# Altium integrated library 0527450797.IntLib: 1 symbol
Pins are listed as number, name and electrical type; pins without a type are passive.

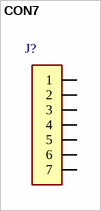
[diagram p0: symbol CON7]

## CON7
designator J?, comment 0527450797  (value not drawn)
ID: 0527450797; PDF: http://www.molex.com/pdm_docs/sd/527451997_sd.pdf; PRICE: 1.12000; BUY_LINK: http://www.digikey.com/product-detail/en/0527450797/WM8942CT-ND/3197371
footprint 0527460771
pins: 1, 2, 3, 4, 5, 6, 7